# Altium footprint library FUSM7431X260N.PcbLib: 1 footprints
Each footprint in its own frame and in the unit in brackets; x right, y up, seen from the top. Pads: shape width x height; smd on the part's side, far side on the other; paste and mask are expansions set on the pad; w line width, h text height; cw(c..) or ccw(c..) is an arc to the next point about the centre after c.
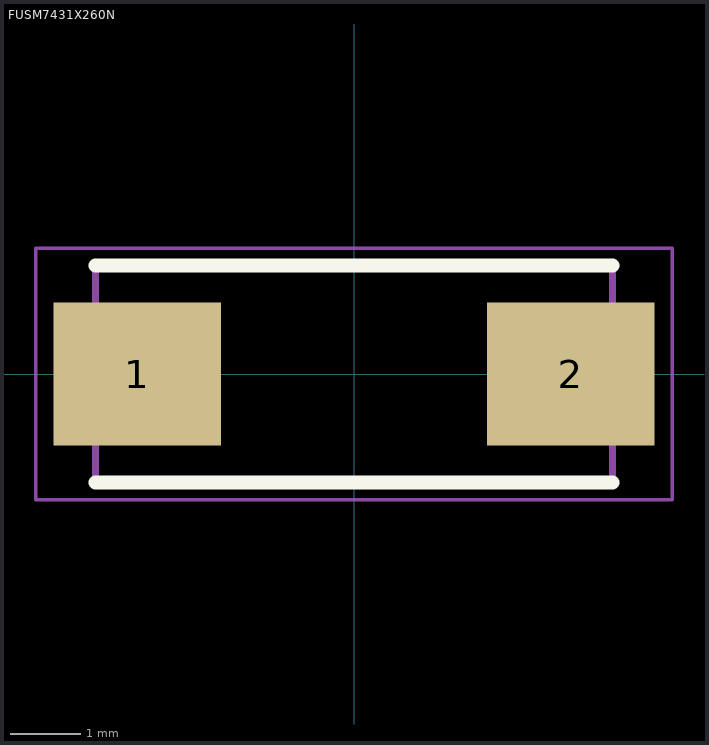
[diagram p0: the footprint, top view; thin cyan lines are the x and y axes]

## FUSM7431X260N [mm]
pads (2):
  rect 2.4x2.05 smd: 1(-3.1,0) 2(3.1,0)
Top Overlay:
  lines w0.2: -3.7,-1.55 3.7,-1.55 ; -3.7,1.55 3.7,1.55
Mechanical 15:
  lines w0.1: -3.7,-1.55 3.7,-1.55 3.7,1.55 -3.7,1.55 -3.7,-1.55
Mechanical 20:
  lines w0.05: -4.55,-1.8 4.55,-1.8 4.55,1.8 -4.55,1.8 -4.55,-1.8